# EAGLE library part INA122UA (library texas-ina)
Instrumentation Amplifier TI-INA122UA
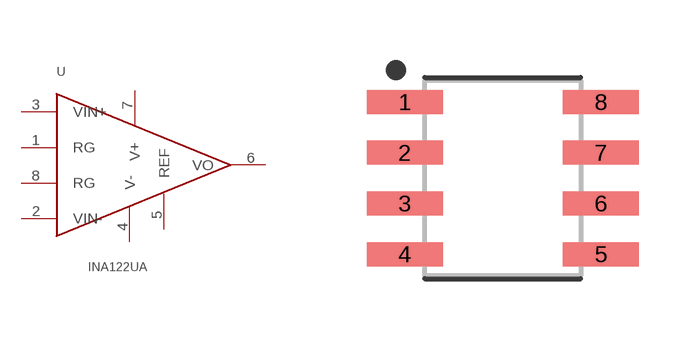
[diagram p0: symbol with the pads of INA122UA; footprint INA122UA]

Designator prefix -

## INA122UA  [INA122UA]
1  RG
2  VIN-
3  VIN+
4  V-
5  REF
6  VO
7  V+
8  RG

## Footprint INA122UA (pad centres in mm)
8-SOIC, 1.27 mm pitch, 6.00 mm span, 4.90 X 3.90 X 1.44 mm body 8-pin SOIC package with 1.27 mm pitch, 6.00 mm span with body size 4.90 X 3.90 X 1.44 mm
smd 1.901 x 0.599: 1 -2.455,1.905; 2 -2.455,0.635; 3 -2.455,-0.635; 4 -2.455,-1.905; 5 2.455,-1.905; 6 2.455,-0.635; 7 2.455,0.635; 8 2.455,1.905